# Altium schematic symbol library PCB_Project_1.SCHLIB: 14 symbols
Pins are listed as number, name and electrical type; pins without a type are passive.

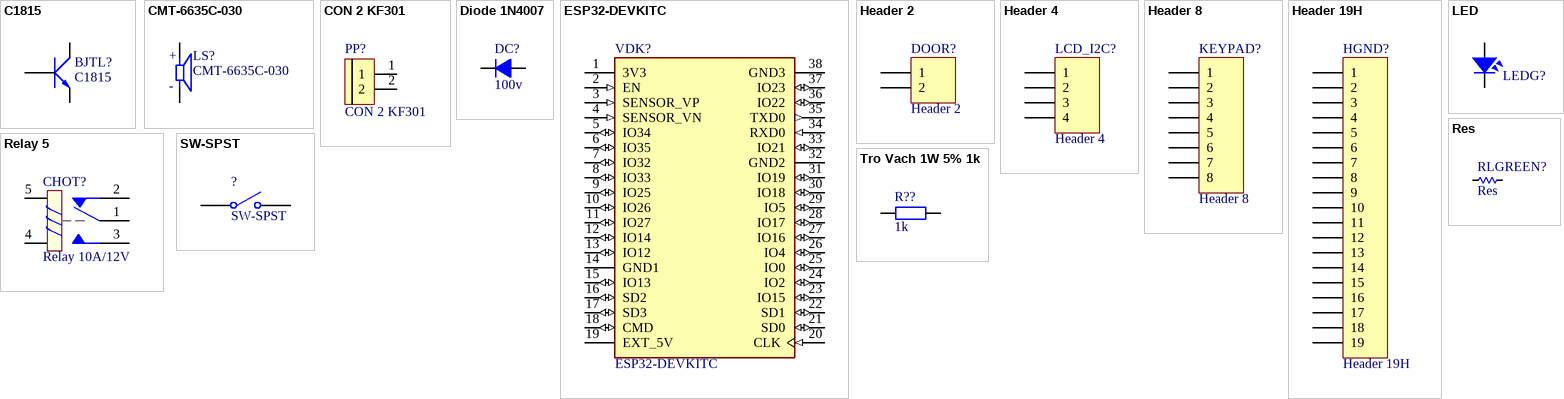
[diagram p0: symbols C1815 to Tro Vach 1W 5% 1k]

## C1815
designator BJTL?
NPN transistor; Value: C9014
footprint TO92 (TO-92)
pins: 1 E, 2 C, 3 B

## CMT-6635C-030
designator LS?
6.6 mm, 3 Vo-p, 80 dB, Through Hole, Magnetic Audio Transducer Buzzer; MF: CUI Devices; Package: CUI Inc.; MP: CMT-6635C-030; CUI_purchase_URL: https://www.cuidevices.com/product/audio/buzzers/audio-transducers/cmt-6635c-030?utm_source=snapeda.com&utm_medium=referral&utm_campaign=snapedaBOM; SnapEDA_Link: https://www.snapeda.com/parts/CMT-6635C-030/CUI%20Devices/view-part/2773120/?ref=snap; Price: None; Value: *; Availability: Unavailable
footprint CUI_CMT-6635C-030
pins: N, P
text: +; -

## CON 2 KF301
designator PP?
Cắm; Ma_Hang: MH000987; Ten_Linh_Kien: CON 2 KF301-2P 5.08MM Xanh Dương; Chung_Loai: Cắm; Ghi_Chu: *; Kieu_Chan: *; Don_Vi: Con
footprint Con 2 KF301 5.08
pins: 1, 2

## Diode 1N4007
designator DC?, comment 100v
Cắm; Ten_Linh_Kien: Diode 1N4007 1A (DIP); Don_Vi: Con; Ma_Hang: MH001063; Ghi Chu: *; Kieu_Chan: *; Chung_Loai: Cắm
footprint DIODE 1A (Diode 1A)
footprint DIODE 1A DUNG (Diode 1A DUNG)
pins: 1 A, 2 K

## ESP32-DEVKITC
designator VDK?
ESP32-WROOM-32UE series Transceiver; 802.11 b/g/n (Wi-Fi, WiFi, WLAN), Bluetooth Â® Smart Ready 4.x Dual Mode Evaluation Board; MF: Espressif Systems; Value: *; SnapEDA_Link: https://www.snapeda.com/parts/ESP32-DEVKITC/Espressif+Systems/view-part/?ref=snap; MP: ESP32-DEVKITC; Purchase-URL: https://pricing.snapeda.com/search/part/ESP32-DEVKITC/?ref=eda; Check_prices: https://www.snapeda.com/parts/ESP32-DEVKITC/Espressif+Systems/view-part/?ref=eda; Availability: In Stock; Price: None; Package: None
footprint MODULE_ESP32-DEVKITC
pins: 1 3V3 (power), 2 EN (in), 3 SENSOR_VP (in), 4 SENSOR_VN (in), 5 IO34 (io), 6 IO35 (io), 7 IO32 (io), 8 IO33 (io), 9 IO25 (io), 10 IO26 (io), 11 IO27 (io), 12 IO14 (io), 13 IO12 (io), 14 GND1 (power), 15 IO13 (io), 16 SD2 (io), 17 SD3 (io), 18 CMD (io), 19 EXT_5V (power), 20 CLK (in), 21 SD0 (io), 22 SD1 (io), 23 IO15 (io), 24 IO2 (io), 25 IO0 (io), 26 IO4 (io), 27 IO16 (io), 28 IO17 (io), 29 IO5 (io), 30 IO18 (io), 31 IO19 (io), 32 GND2 (power), 33 IO21 (io), 34 RXD0 (in), 35 TXD0 (out), 36 IO22 (io), 37 IO23 (io), 38 GND3 (power)

## Header 2
designator DOOR?
Header, 2-Pin; LatestRevisionDate: 17-Jul-2002; LatestRevisionNote: Re-released for DXP Platform.; Publisher: Altium Limited
footprint HDR1X2 (Connector; Header; 2 Position)
signal-integrity model Connector
pins: 1, 2

## Header 4
designator LCD_I2C?
Header, 4-Pin; LatestRevisionDate: 17-Jul-2002; LatestRevisionNote: Re-released for DXP Platform.; Publisher: Altium Limited
footprint HDR1X4 (Connector; Header; 4 Position)
signal-integrity model Connector
pins: 1, 2, 3, 4

## Header 8
designator KEYPAD?
Header, 8-Pin; LatestRevisionDate: 17-Jul-2002; LatestRevisionNote: Re-released for DXP Platform.; Publisher: Altium Limited
footprint HDR1X8 (Connector; Header; 8 Position)
signal-integrity model Connector
pins: 1, 2, 3, 4, 5, 6, 7, 8

## Header 19H
designator HGND?
Header, 19-Pin, Right Angle; LatestRevisionDate: 17-Jul-2002; LatestRevisionNote: Re-released for DXP Platform.; Publisher: Altium Limited
footprint HDR1X19H (Connector; Header; 19 Position; Right Angle)
signal-integrity model Connector
pins: 1, 2, 3, 4, 5, 6, 7, 8, 9, 10, 11, 12, 13, 14, 15, 16, 17, 18, 19

## LED
designator LEDG?  (value not drawn)
LED Single colour Green and Red; Value: LED 3 ly Single Colour
footprint LED-5-BLUE (LED 2 PIN, 5 ly , Only colour, pin to pin 110mil)
footprint LED-5-Green (LED 2 PIN, 5 ly , Only colour,pin to pin 100mil)
footprint LED-5-RED (LED 2 PIN, 5 ly , Only colour,pin to pin 100mil)
footprint LED-5-WHITE (LED 2 PIN, 5 ly , Only colour, pin to pin 110mil)
footprint LED-5-Yellow (LED 2 PIN, 5 ly , Only colour,pin to pin 100mil)
footprint LED-3MM-YELLOW
footprint LED-3MM-RED
footprint LED-3MM-GREEN
footprint LED-3MM-BLUE
footprint LED-5MM-BLUE
footprint LED-5MM-GREEN
footprint LED-5MM-ORANGE
footprint LED-5MM-RED
footprint LED-5MM-WHITE
footprint LED-5MM-YELLOW
footprint LED-3MM-WHITE (LED 2 PIN, 3ly Only colour)
pins: 1, 2

## Relay 5
designator CHOT?, comment Relay 10A/12V
Relay SPDT,10A - 12VDC 5 Pin; Value: Relay SPDT, 10A, 12V
footprint RELAY 5 (Reley DPDT, 8 pin, 1A, W400mil, L800mil,H 300mil)
pins: 1, 2, 3, 4, 5

## Res
designator RLGREEN?
Manufacturer: Generic Components; Class: Passive; SubClass: R; Published: 08/06/2000; Publisher: Altium Hobart Technology Centre
footprint RES-1/2W
footprint RES-1/4W
footprint RES-1/4W-SMALL
footprint RES-1/4WD
footprint RES-1/8W
footprint RES-1/8W-SMALL (R 1/8W, 2 pin, 200mil)
footprint RES-1/8WD
footprint RES-1W
footprint RES-1W-LONG
footprint RES-1WD
footprint RES-2W (R2W, 2 pin, 700mil)
footprint RES-5W (R5W , 2 pin, 400 x 950mil)
footprint RES-5WD (R5W , 2 pin, 300 x 600 mil)
footprint RES-1/8W-SMALL-2 (R 1/8W, 2 pin, 200mil)
pins: 1, 2

## SW-SPST
designator ?
Single-Pole, Single-Throw Switch; Published: 24-Mar-1999; LatestRevisionDate: 17-Jul-2002; LatestRevisionNote: Re-released for DXP Platform.; PackageReference: SPST-2; Publisher: Altium Limited; PackageDescription: Switch; 2 Leads
footprint SPST-2 (Switch; 2 Leads)
pins: 1 COMMON, 2 NO

## Tro Vach 1W 5% 1k
designator R??, comment 1k
Cắm; Don_Vi: Con; So_Chan: 2; Ten_Linh_Kien: Trở 5% 1w 1k; Ma_Hang: MH006397; Chung_Loai: Cắm; Kieu_Chan: *
footprint tro vach 1w
pins: 1, 2